# EAGLE library part OP284E_SEPARATE (library microwave_radar)
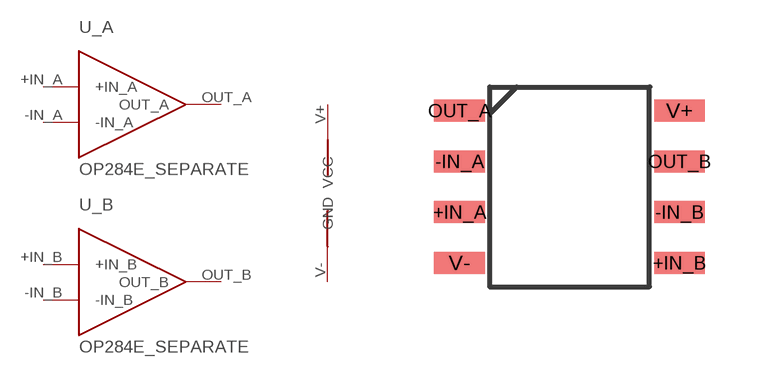
[diagram p2: symbol with the pads of OP284E_SEPARATE; footprint OP284E_SEPARATE]

Designator prefix U; gates _A=OP284E_A _B=OP284E_B G$2=OP284E_SOURCE

## OP284E_SEPARATE  [OP284E_SEPARATE]
+IN_A  _A:+IN_A
+IN_B  _B:+IN_B
-IN_A  _A:-IN_A
-IN_B  _B:-IN_B
OUT_A  _A:OUT_A
OUT_B  _B:OUT_B
V+  G$2:VCC
V-  G$2:GND

## Footprint OP284E_SEPARATE (pad centres in mm)
smd 1.27 x 0.55: +IN_A 0,2.54; +IN_B 5.5,1.27; -IN_A 0,3.81; -IN_B 5.5,2.54; OUT_A 0,5.08; OUT_B 5.5,3.81; V+ 5.5,5.08; V- 0,1.27